# Altium footprint library con_1mm_6pin.PcbLib: 1 footprints
Each footprint in its own frame and in the unit in brackets; x right, y up, seen from the top. Pads: shape width x height; smd on the part's side, far side on the other; paste and mask are expansions set on the pad; w line width, h text height; cw(c..) or ccw(c..) is an arc to the next point about the centre after c.
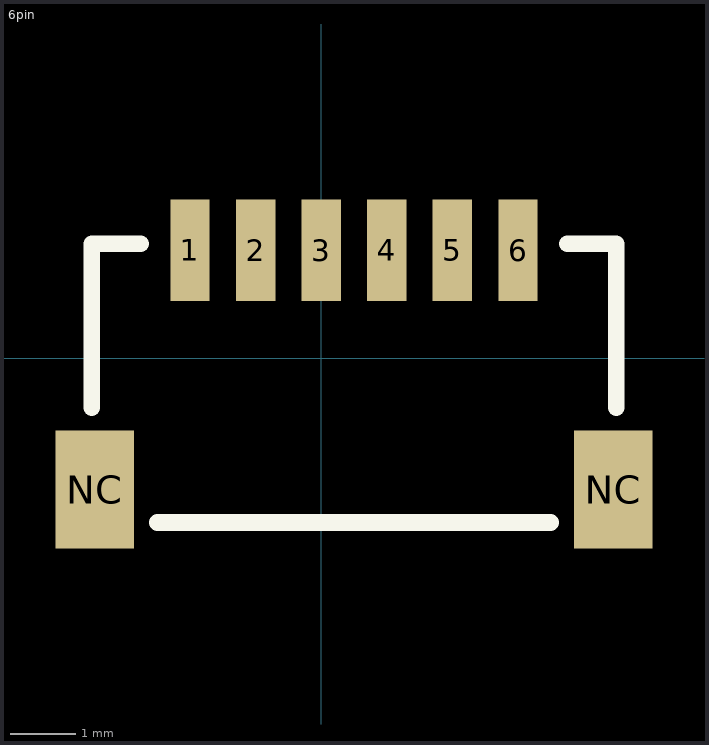
[diagram p0: the footprint, top view; thin cyan lines are the x and y axes]

## 6pin [mm] "con_1mm_mm"
height 1.5
pads (8):
  rect 0.6x1.55 smd: 1(-2,1.65) 2(-1,1.65) 3(0,1.65) 4(1,1.65) 5(2,1.65) 6(3,1.65)
  rect 1.2x1.8 smd: NC(-3.45,-2) NC(4.45,-2)
Top Overlay:
  lines w0.254: -3.5,-0.75 -3.5,1.75 -2.75,1.75 ; -2.5,-2.5 3.5,-2.5 ; 3.75,1.75 4.5,1.75 4.5,-0.75